# EAGLE library part 2420-08? (library con-wieson-2420)
2.0mm 2420-08 - 8 pin Source: http://www.jm.pl/karty/2420-XXXT1X-C.pdf
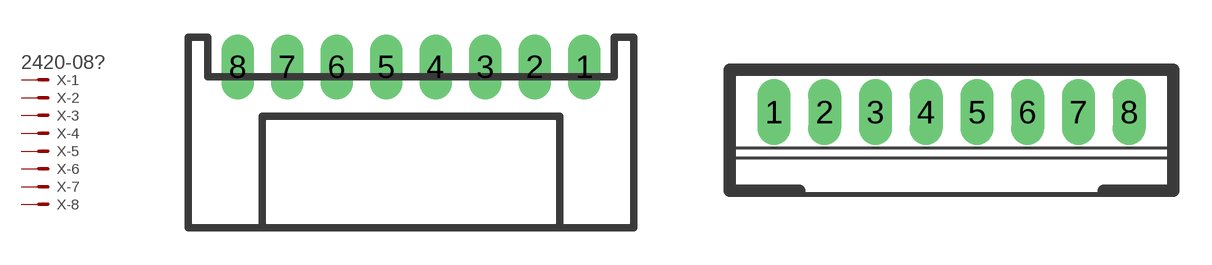
[diagram p9: symbol with the pads of 2420-08R; footprints 2420-08R, 2420-08S]

Designator prefix X; gates -1=MV -2=M -3=M -4=M -5=M -6=M -7=M -8=M

## 2420-08R  [2420-08R]
1  -1:>NAME$
2  -2:>NAME$
3  -3:>NAME$
4  -4:>NAME$
5  -5:>NAME$
6  -6:>NAME$
7  -7:>NAME$
8  -8:>NAME$

## 2420-08S  [2420-08S]
Pads as for 2420-08R

## Footprint 2420-08R (pad centres in mm)
2.0mm right angle 2420-08 - 8 pin Source: http://www.jm.pl/karty/2420-XXXT1X-C.pdf
drill 0.8 long: 1 7,0; 2 5,0; 3 3,0; 4 1,0; 5 -1,0; 6 -3,0; 7 -5,0; 8 -7,0

## Footprint 2420-08S (pad centres in mm)
2.0mm straight 2420-08 - 8 pin Source: http://www.jm.pl/karty/2420-XXXT1X-C.pdf
drill 0.8 long: 1 -7,0; 2 -5,0; 3 -3,0; 4 -1,0; 5 1,0; 6 3,0; 7 5,0; 8 7,0